# Altium footprint library PCB - LEADLESS - QFN - SKYWORKS QFN-20 4x4MM.PcbLib: 1 footprints
Each footprint in its own frame and in the unit in brackets; x right, y up, seen from the top. Pads: shape width x height; smd on the part's side, far side on the other; paste and mask are expansions set on the pad; w line width, h text height; cw(c..) or ccw(c..) is an arc to the next point about the centre after c.
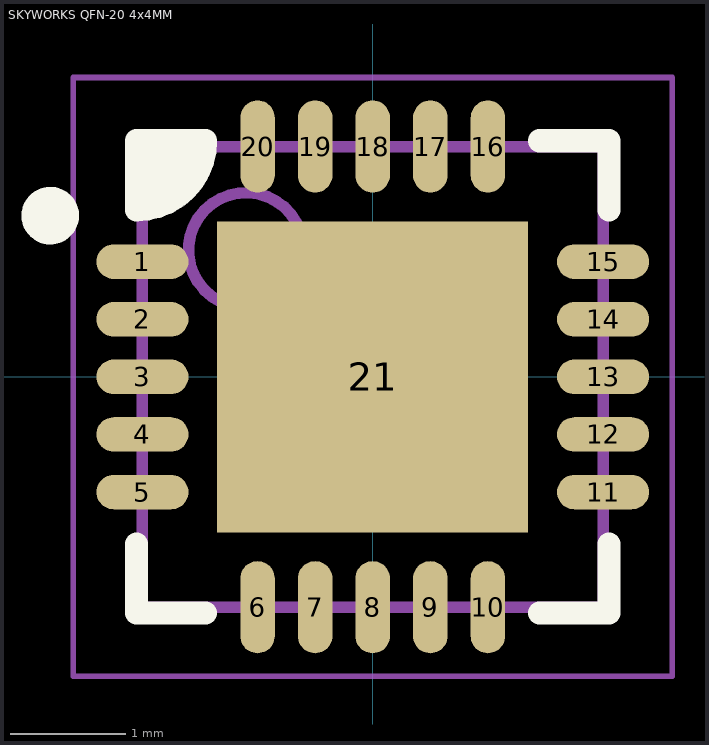
[diagram p0: the footprint, top view; thin cyan lines are the x and y axes]

## SKYWORKS QFN-20 4x4MM [mm] "QFN, 20-Leads, Body 4.00x4.00mm, Pitch 0.50mm, Thermal Pad 2.70x2.70mm, IPC Medium Density"
height 0.9
pads (21):
  oval 0.8x0.3 smd: 1(-2,1) 2(-2,0.5) 3(-2,0) 4(-2,-0.5) 5(-2,-1) 11(2,-1) 12(2,-0.5) 13(2,0) 14(2,0.5) 15(2,1)
  oval 0.3x0.8 smd: 6(-1,-2) 7(-0.5,-2) 8(0,-2) 9(0.5,-2) 10(1,-2) 16(1,2) 17(0.5,2) 18(0,2) 19(-0.5,2) 20(-1,2)
  rect 2.7x2.7 smd: 21(0,0)
Top Overlay:
  circle w0.25: c-2.8,1.4 r0.125
  region: -2.05,2.05 -1.45,2.05 -1.45,1.85 -1.85,1.45 -2.05,1.45
  lines w0.2: -2.05,-1.45 -2.05,-2.05 -1.45,-2.05 ; 1.45,-2.05 2.05,-2.05 2.05,-1.45 ; 1.45,2.05 2.05,2.05 2.05,1.45 ; -2.05,1.45 ccw(c-2.05,2.05) -1.45,2.05 -2.05,2.05 -2.05,1.45
Top Assembly:
  circle w0.1: c-1.1,1.1 r0.5
  lines w0.1: -2,-2 -2,2 2,2 2,-2 -2,-2
Top Courtyard:
  lines w0.05: -2.6,-2.6 -2.6,2.6 2.6,2.6 2.6,-2.6 -2.6,-2.6
  lines w0.1: -0.5,0 0.5,0 ; 0,-0.5 0,0.5
3D body "SKYWORKS QFN-20 4x4MM.step": height 0.9, standoff 0, extent -2.001,-2.001 2.001,2.001